# Altium schematic symbol library Thyristors.SchLib: 1 symbol
Pins are listed as number, name and electrical type; pins without a type are passive.

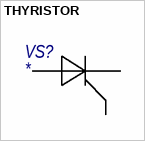
[diagram p0: symbol THYRISTOR]

## THYRISTOR
designator VS?
pins: 1 A, 2 C, 3 G